# Altium integrated library Micron Memory Parallel NOR Flash.IntLib: 720 symbols (part 84 of 216)
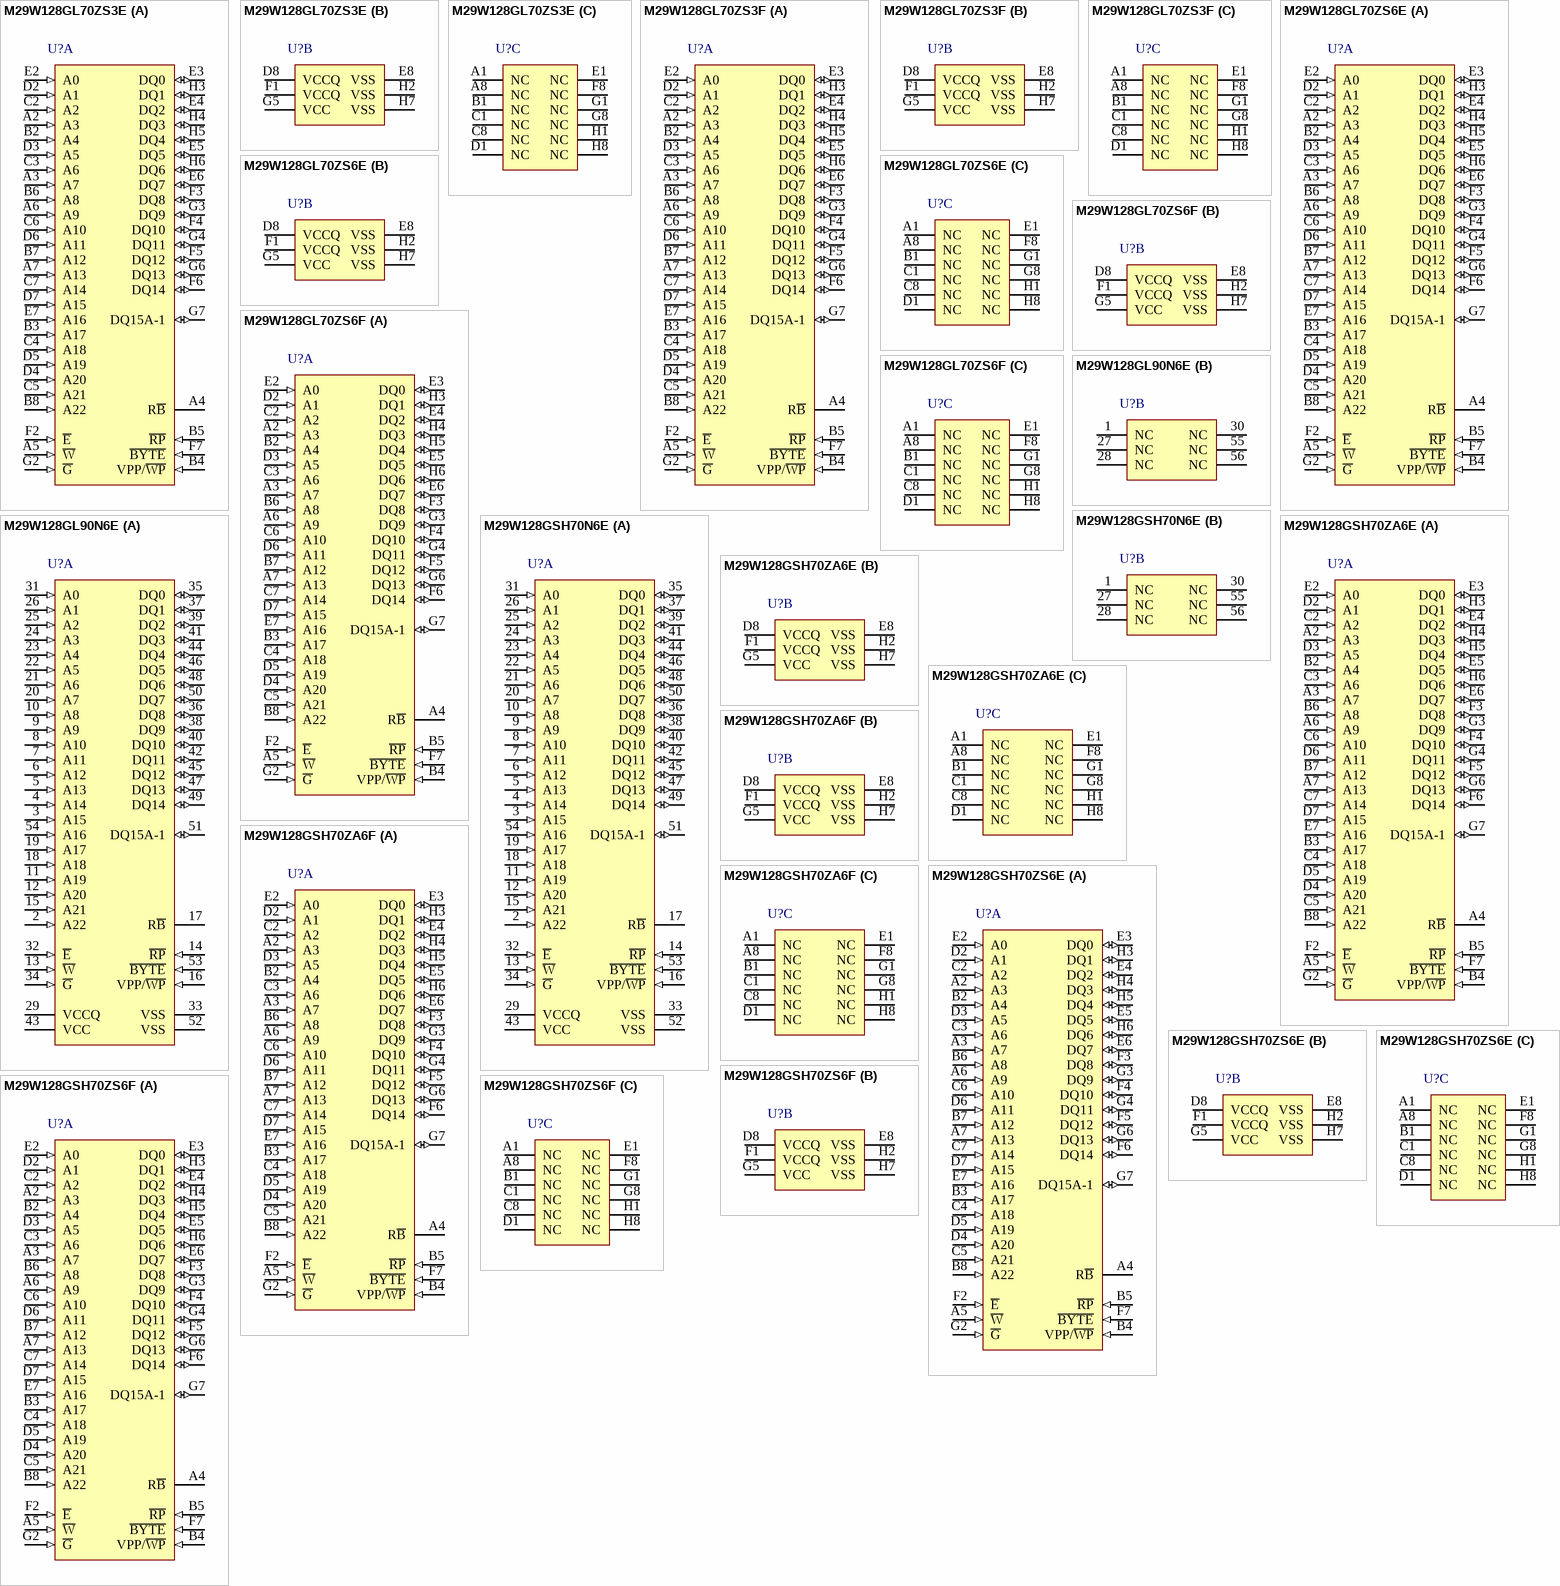
[diagram p227: symbols M29W128GL70ZS3E to M29W128GSH70ZS6F]

## M29W128GL90N6E
designator U?
128 Mb (x8/x16) Parallel NOR Flash Memory, 90 ns, 2.7 to 3.6 V, 56-pin TSOP (N), Tray; Part Family: M29W; Manufacturer: Micron; PartNumber: M29W128GL90N6E; Density: 128Mb; Op Temp: -40C to +85C; Speed: 90ns; Voltage: 2.7V-3.6V; DatasheetVersion: Rev. 11; PackageVersion: Rev 3; PackageReference: MICT-N-56; PackageDescription: 56-Pin TSOP, 18.4 X 14 mm, Pitch 0.5 mm; RoHS: Yes; Width: x8/x16; Mounting Technology: Surface Mount; ComponentLink1Description: Manufacturer URL; ComponentLink1URL: http://www.micron.com/; ComponentLink2Description: Datasheet; ComponentLink2URL: http://www.micron.com/~/media/Documents/Products/Data%20Sheet/NOR%20Flash/Parallel/M29W/M29W128G.pdf; ComponentLink3Description: Package Specification; ComponentLink3URL: http://www.micron.com/~/media/Documents/Products/Data%20Sheet/NOR%20Flash/Parallel/M29DW/M29DW128G.pdf
footprint MICT-N-56_N (SOP, 56-Leads, Body 18.4x14mm, Pitch 0.5mm, IPC Medium Density)
part A pins: 2 A22 (in) "The Address Input select the cells in the memory array to access during bus read  operations. During bus write operations they control the commands sent to the command  interface of the program/erase controller.", 3 A15 (in) "The Address Input select the cells in the memory array to access during bus read  operations. During bus write operations they control the commands sent to the command  interface of the program/erase controller.", 4 A14 (in) "The Address Input select the cells in the memory array to access during bus read  operations. During bus write operations they control the commands sent to the command  interface of the program/erase controller.", 5 A13 (in) "The Address Input select the cells in the memory array to access during bus read  operations. During bus write operations they control the commands sent to the command  interface of the program/erase controller.", 6 A12 (in) "The Address Input select the cells in the memory array to access during bus read  operations. During bus write operations they control the commands sent to the command  interface of the program/erase controller.", 7 A11 (in) "The Address Input select the cells in the memory array to access during bus read  operations. During bus write operations they control the commands sent to the command  interface of the program/erase controller.", 8 A10 (in) "The Address Input select the cells in the memory array to access during bus read  operations. During bus write operations they control the commands sent to the command  interface of the program/erase controller.", 9 A9 (in) "The Address Input select the cells in the memory array to access during bus read  operations. During bus write operations they control the commands sent to the command  interface of the program/erase controller.", 10 A8 (in) "The Address Input select the cells in the memory array to access during bus read  operations. During bus write operations they control the commands sent to the command  interface of the program/erase controller.", 11 A19 (in) "The Address Input select the cells in the memory array to access during bus read  operations. During bus write operations they control the commands sent to the command  interface of the program/erase controller.", 12 A20 (in) "The Address Input select the cells in the memory array to access during bus read  operations. During bus write operations they control the commands sent to the command  interface of the program/erase controller.", 13 ~{W} (in) "The write enable pin, W\, controls the bus write operation of the memory’s command  interface.", 14 ~{RP} (in) "The reset pin can be used to apply a hardware reset to the memory.A hardware reset is achieved by holding reset Low, VIL , for at least tPLPX. After reset goes  High, VIH, the memory will be ready for bus read and bus write (See Datasheet)", 15 A21 (in) "The Address Input select the cells in the memory array to access during bus read  operations. During bus write operations they control the commands sent to the command  interface of the program/erase controller.", 16 VPP/~{WP} (in) "The VPP/write protect pin provides two functions. The VPPH function allows the memory touse an external high voltage power supply to reduce the time required for program  operations. This is achieved by bypassing the unlock (See Datasheet)", 17 R~{B} (hiz) "The ready/busy pin is an open-drain output that can be used to identify when the device is  performing a program or erase operation. During program or erase operations ready/busy is  Low, VOL  (see Table 20: Status register (See Datasheet)", 18 A18 (in) "The Address Input select the cells in the memory array to access during bus read  operations. During bus write operations they control the commands sent to the command  interface of the program/erase controller", 19 A17 (in) "The Address Input select the cells in the memory array to access during bus read  operations. During bus write operations they control the commands sent to the command  interface of the program/erase controller.", 20 A7 (in) "The Address Input select the cells in the memory array to access during bus read  operations. During bus write operations they control the commands sent to the command  interface of the program/erase controller.", 21 A6 (in) "The Address Input select the cells in the memory array to access during bus read  operations. During bus write operations they control the commands sent to the command  interface of the program/erase controller.", 22 A5 (in) "The Address Input select the cells in the memory array to access during bus read  operations. During bus write operations they control the commands sent to the command  interface of the program/erase controller.", 23 A4 (in) "The Address Input select the cells in the memory array to access during bus read  operations. During bus write operations they control the commands sent to the command  interface of the program/erase controller.", 24 A3 (in) "The Address Input select the cells in the memory array to access during bus read  operations. During bus write operations they control the commands sent to the command  interface of the program/erase controller.", 25 A2 (in) "The Address Input select the cells in the memory array to access during bus read  operations. During bus write operations they control the commands sent to the command  interface of the program/erase controller.", 26 A1 (in) "The Address Input select the cells in the memory array to access during bus read  operations. During bus write operations they control the commands sent to the command  interface of the program/erase controller.", 29 VCCQ (power) "VCCQ provides the power supply to the I/O pins and enables all outputs to be powered  independently from VCC.", 31 A0 (in) "The Address Input select the cells in the memory array to access during bus read  operations. During bus write operations they control the commands sent to the command  interface of the program/erase controller.", 32 ~{E} (in) "The chip enable pin, E\, activates the memory, allowing bus read and bus write operations to  be performed. When chip enable is High, VIH, all other pins are ignored.", 33 VSS (power) "VSS is the reference for all voltage measurements. The device features two VSS pins both of  which must be connected to the system ground.", 34 ~{G} (in) "The output enable pin, G\, controls the bus read operation of the memory.", 35 DQ0 (io) "The data I/O Output the data stored at the selected address during a bus read operation.  During bus write operations they represent the commands sent to the command interface of  the internal state machine.", 36 DQ8 (io) "The data I/O outputs the data stored at the selected address during a bus read operation  when B\Y\T\E\ is High, VIH. When B\Y\T\E\ is Low, VIL , these pins are not used and are high  impedance. During bus write operations (See Datasheet)", 37 DQ1 (io) "The data I/O Output the data stored at the selected address during a bus read operation.  During bus write operations they represent the commands sent to the command interface of  the internal state machine.", 38 DQ9 (io) "The data I/O outputs the data stored at the selected address during a bus read operation  when B\Y\T\E\ is High, VIH. When B\Y\T\E\ is Low, VIL , these pins are not used and are high  impedance. During bus write operations (See Datasheet)", 39 DQ2 (io) "The data I/O Output the data stored at the selected address during a bus read operation.  During bus write operations they represent the commands sent to the command interface of  the internal state machine.", 40 DQ10 (io) "The data I/O outputs the data stored at the selected address during a bus read operation  when B\Y\T\E\ is High, VIH. When B\Y\T\E\ is Low, VIL , these pins are not used and are high  impedance. During bus write operations (See Datasheet)", 41 DQ3 (io) "The data I/O outputs the data stored at the selected address during a bus read operation.  During bus write operations they represent the commands sent to the command interface of  the internal state machine.", 42 DQ11 (io) "The data I/O outputs the data stored at the selected address during a bus read operation  when B\Y\T\E\ is High, VIH. When B\Y\T\E\ is Low, VIL , these pins are not used and are high  impedance. During bus write operations (See Datasheet)", 43 VCC (power) "VCCQ provides the power supply to the I/O pins and enables all outputs to be powered  independently from VCC", 44 DQ4 (io) "The data I/O OUTPUT the data stored at the selected address during a bus read operation.  During bus write operations they represent the commands sent to the command interface of  the internal state machine.", 45 DQ12 (io) "The data I/O outputs the data stored at the selected address during a bus read operation  when B\Y\T\E\ is High, VIH. When B\Y\T\E\ is Low, VIL , these pins are not used and are high  impedance. During bus write operations (See Datasheet)", 46 DQ5 (io) "The data I/O outputs the data stored at the selected address during a bus read operation.  During bus write operations they represent the commands sent to the command interface of  the internal state machine.", 47 DQ13 (io) "The data I/O outputs the data stored at the selected address during a bus read operation  when B\Y\T\E\ is High, VIH. When B\Y\T\E\ is Low, VIL , these pins are not used and are high  impedance. During bus write operations (See Datasheet)", 48 DQ6 (io) "The data I/O outputs the data stored at the selected address during a bus read operation.  During bus write operations they represent the commands sent to the command interface of  the internal state machine.", 49 DQ14 (io) "The data I/O outputs the data stored at the selected address during a bus read operation  when B\Y\T\E\ is High, VIH. When B\Y\T\E\ is Low, VIL , these pins are not used and are high  impedance. During bus write operations (See Datasheet)", 50 DQ7 (io) "The data I/O outputs the data stored at the selected address during a bus read operation.  During bus write operations they represent the commands sent to the command interface of  the internal state machine.", 51 DQ15A-1 (io) "When the device is in x 16 bus mode, this pin behaves as a data input/output pin (as DQ8- DQ14). When the device operates in x 8 bus mode, this pin behaves as the least significant  bit of the address. Throughout the text (See Datasheet)", 52 VSS (power) "VSS is the reference for all voltage measurements. The device features two VSS pins both of  which must be connected to the system ground.", 53 ~{BYTE} (in) "It is used to switch between the x8 and x16 bus modes of the memory. When byte/word  organization select is Low, VIL , the memory is in x8 mode, when it is High, VIH, the memory  is in x16 mode.", 54 A16 (in) "The Address Input select the cells in the memory array to access during bus read  operations. During bus write operations they control the commands sent to the command  interface of the program/erase controller."
part B pins: 1 NC "Not connected", 27 NC "Not connected", 28 NC "Not connected", 30 NC "Not connected", 55 NC "Not connected", 56 NC "Not connected"